# Altium footprint library leonLib.PcbLib: 249 footprints (part 11 of 16)
Each footprint in its own frame and in the unit in brackets; x right, y up, seen from the top. Pads: shape width x height; smd on the part's side, far side on the other; paste and mask are expansions set on the pad; w line width, h text height; cw(c..) or ccw(c..) is an arc to the next point about the centre after c.
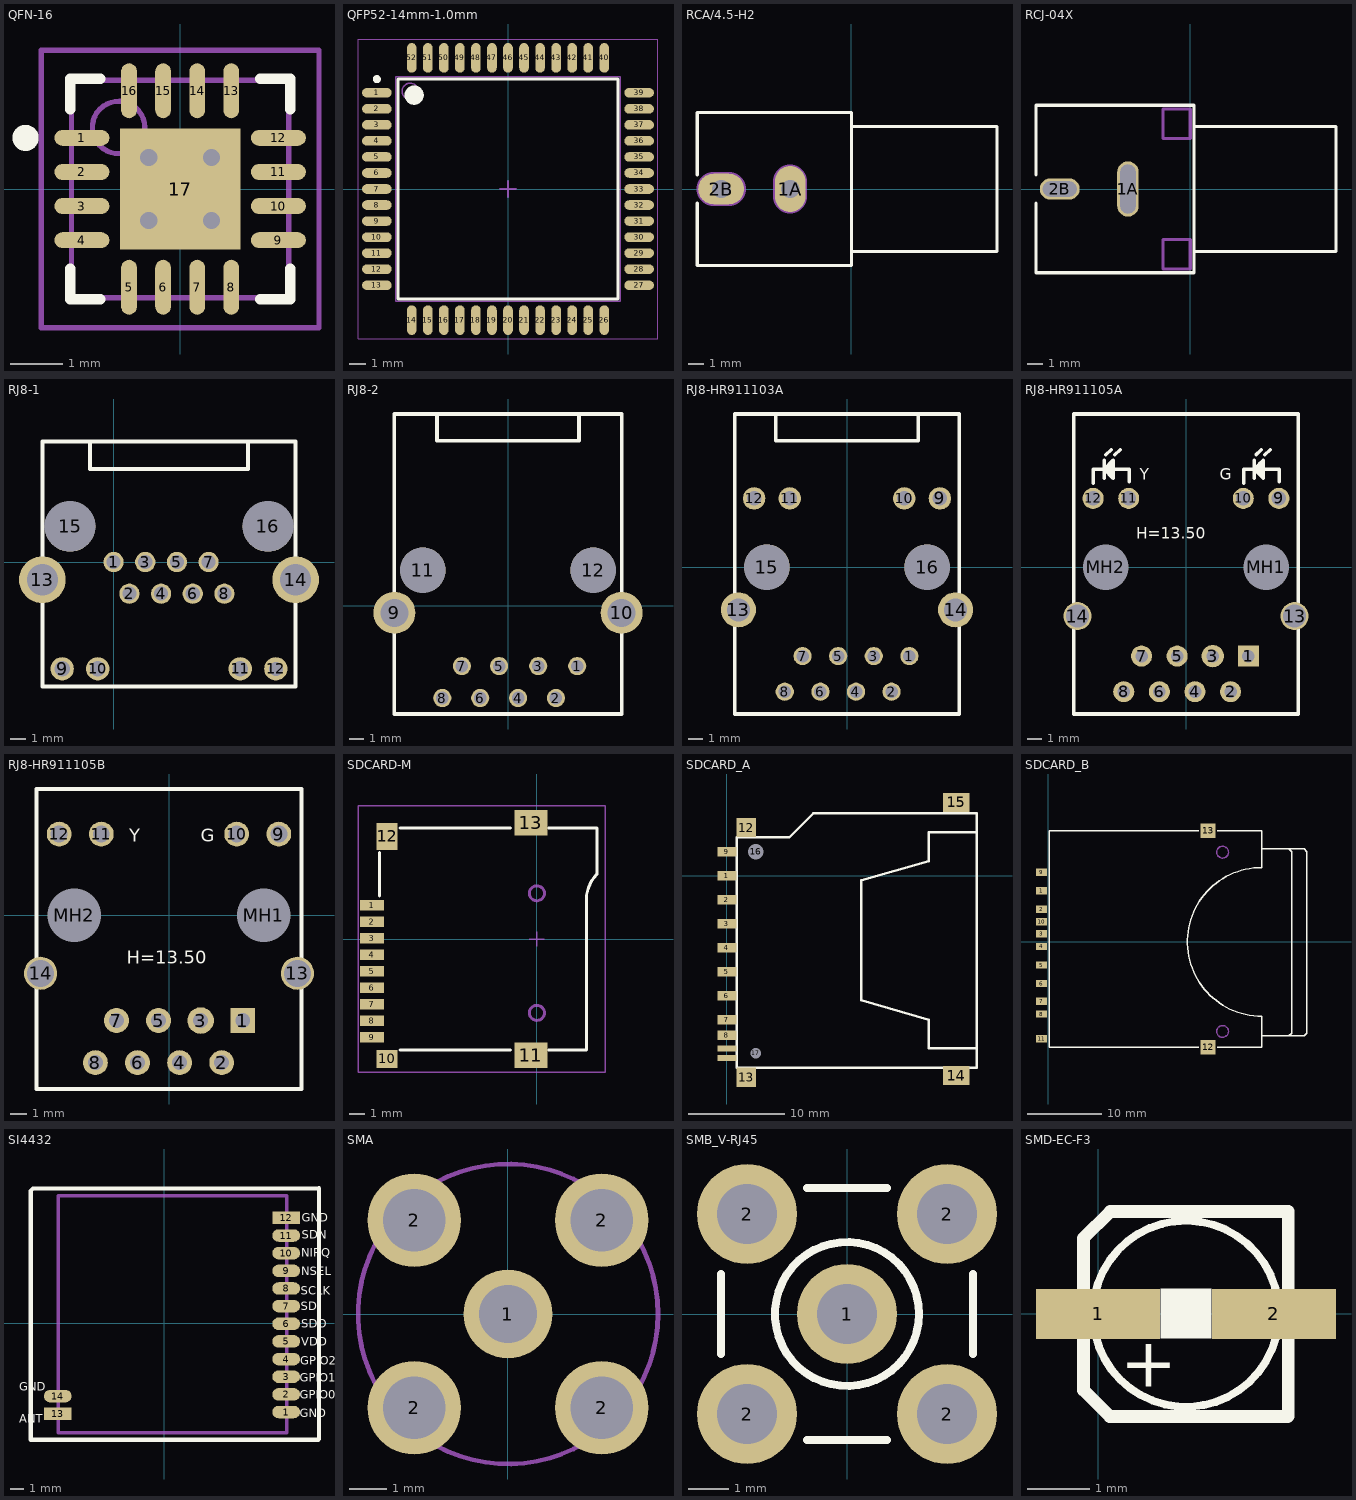
[diagram p10: the footprints below, top view; thin cyan lines are the x and y axes]

## QFN-16 [mm] "QFN"
height 0.8
pads (17):
  oval 1.05x0.3 smd: 1(-1.875,0.975) 2(-1.875,0.325) 3(-1.875,-0.325) 4(-1.875,-0.975) 9(1.875,-0.975) 10(1.875,-0.325) 11(1.875,0.325) 12(1.875,0.975)
  oval 0.3x1.05 smd: 5(-0.975,-1.875) 6(-0.325,-1.875) 7(0.325,-1.875) 8(0.975,-1.875) 13(0.975,1.875) 14(0.325,1.875) 15(-0.325,1.875) 16(-0.975,1.875)
  rect 2.3x2.3 smd: 17(0,0)
via 0.6,-0.6 diameter 0.66 hole 0.33
via -0.6,-0.6 diameter 0.66 hole 0.33
via 0.6,0.6 diameter 0.66 hole 0.33
via -0.6,0.6 diameter 0.66 hole 0.33
Top Overlay:
  circle w0.25: c-2.95,0.975 r0.125
  lines w0.2: -2.1,-1.525 -2.1,-2.1 -1.525,-2.1 ; -2.1,1.525 -2.1,2.1 -1.525,2.1 ; 1.525,-2.1 2.1,-2.1 2.1,-1.525 ; 1.525,2.1 2.1,2.1 2.1,1.525
Mechanical 13:
  circle w0.1: c-1.175,1.175 r0.5
  lines w0.1: -2.075,-2.075 2.075,-2.075 2.075,2.075 -2.075,2.075 -2.075,-2.075
Mechanical 15:
  lines w0.1: -0.5,0 0.5,0 ; 0,-0.5 0,0.5 ; -2.65,-2.65 2.65,-2.65 2.65,2.65 -2.65,2.65 -2.65,-2.65
3D body: height 0.8, standoff 0, extent -2.075,-2.075 2.075,2.075

## QFP52-14mm-1.0mm [mm] "QFP, 52-Leads, Body 14.00x14.00mm, Pitch 1.00mm, IPC Medium Density"
height 3.4
pads (52):
  oval 1.85x0.6 smd: 1(-8.175,6) 2(-8.175,5) 3(-8.175,4) 4(-8.175,3) 5(-8.175,2) 6(-8.175,1) 7(-8.175,0) 8(-8.175,-1) 9(-8.175,-2) 10(-8.175,-3) 11(-8.175,-4) 12(-8.175,-5) 13(-8.175,-6) 27(8.175,-6) 28(8.175,-5) 29(8.175,-4) 30(8.175,-3) 31(8.175,-2) 32(8.175,-1) 33(8.175,0) 34(8.175,1) 35(8.175,2) 36(8.175,3) 37(8.175,4) 38(8.175,5) 39(8.175,6)
  oval 0.6x1.85 smd: 14(-6,-8.175) 15(-5,-8.175) 16(-4,-8.175) 17(-3,-8.175) 18(-2,-8.175) 19(-1,-8.175) 20(0,-8.175) 21(1,-8.175) 22(2,-8.175) 23(3,-8.175) 24(4,-8.175) 25(5,-8.175) 26(6,-8.175) 40(6,8.175) 41(5,8.175) 42(4,8.175) 43(3,8.175) 44(2,8.175) 45(1,8.175) 46(0,8.175) 47(-1,8.175) 48(-2,8.175) 49(-3,8.175) 50(-4,8.175) 51(-5,8.175) 52(-6,8.175)
Top Overlay:
  circle w0.25: c-8.175,6.85 r0.125
  circle w0.6: c-5.85,5.85 r0.3
  lines w0.2: -6.85,-6.85 -6.85,6.85 6.85,6.85 6.85,-6.85 -6.85,-6.85
Mechanical 13:
  circle w0.1: c-6.1,6.1 r0.5
  lines w0.1: -7,-7 -7,7 7,7 7,-7 -7,-7
Mechanical 15:
  lines w0.05: -9.35,-9.35 -9.35,9.35 9.35,9.35 9.35,-9.35 -9.35,-9.35
  lines w0.1: -0.5,0 0.5,0 ; 0,-0.5 0,0.5
3D body: height 3.4, standoff 0.1, extent -7,-7 7,7

## RCA/4.5-H2 [mm] "Two Conductor Jack (RCA)"
height 13
pads (2):
  oval 2x3 hole 1.2: 1A(-4,0)
  oval 3x2 hole 1.2: 2B(-8.496,0)
Top Overlay:
  lines w0.2: -10.075,5 -0.018,5 ; -10.057,-0.92 -10.057,-5 0,-5 0,5 ; -10.057,0.92 -10.057,5 ; 0,-4.065 9.5,-4.065 9.5,4.065 0,4.065
Mechanical 1:
  lines w1.2: -8.996,0 -7.996,0 ; -4,-0.5 -4,0.5
Mechanical 2:
  lines w2.216: -8.996,0 -7.996,0 ; -4,-0.5 -4,0.5

## RCJ-04X [mm] "Two Conductor Jack (RCA)"
height 13
pads (2):
  oval 1.4x3.6 hole 1 slot 3.2 at 90 deg: 1A(-4.064,0)
  oval 2.6x1.4 hole 1 slot 2.2 at 0 deg: 2B(-8.509,0)
Top Overlay:
  lines w0.2: -10.057,-0.92 -10.057,-5.461 0.254,-5.461 0.254,5.461 -10.057,5.461 -10.057,0.92 ; 0.254,-4.065 9.5,-4.065 9.5,4.065 0.254,4.065
Mechanical 1:
  lines w0.2: -1.778,-5.207 0,-5.207 0,-3.302 -1.778,-3.302 -1.778,-5.207 ; -1.778,3.302 -1.778,5.207 0,5.207 0,3.302 -1.778,3.302

## RJ8-1 [mm] "网络"
pads (16):
  round 1.3 hole 0.9: 1(0,0) 2(1.016,-2.032) 3(2.032,0) 4(3.048,-2.032) 5(4.064,0) 6(5.08,-2.032) 7(6.096,0) 8(7.112,-2.032)
  round 1.5 hole 1: 9(-3.302,-6.858) 10(-1.016,-6.858) 11(8.128,-6.858)
  round 1.5 hole 0.9: 12(10.414,-6.858)
  round 3 hole 2: 13(-4.572,-1.143) 14(11.684,-1.143)
  round 3.251 hole 3.251: 15(-2.794,2.286) 16(9.906,2.286)
Top Overlay:
  lines w0.254: -1.524,7.747 -1.524,5.969 8.636,5.969 8.636,7.747 ; -4.572,-8.001 11.684,-8.001 11.684,-1.143 11.684,7.747 -4.572,7.747 -4.572,-1.143 -4.572,-8.001

## RJ8-2 [mm] "网络"
height 10
pads (12):
  round 1.3 hole 0.9: 1(4.953,-4.318) 2(3.429,-6.604) 3(2.159,-4.318) 4(0.72,-6.604) 5(-0.635,-4.318) 6(-1.99,-6.604) 7(-3.302,-4.318) 8(-4.699,-6.604)
  round 3 hole 2: 9(-8.128,-0.508) 10(8.128,-0.508)
  round 3.251 hole 3.251: 11(-6.096,2.54) 12(6.096,2.54)
Top Overlay:
  lines w0.254: -5.08,13.589 -5.08,11.811 5.08,11.811 5.08,13.589 ; -8.128,-7.747 8.128,-7.747 8.128,-0.889 8.128,13.716 -8.128,13.716 -8.128,-0.889 -8.128,-7.747

## RJ8-HR911103A [mm] "网络"
height 10
pads (16):
  round 1.3 hole 0.9: 1(4.45,-6.35) 2(3.18,-8.89) 3(1.91,-6.35) 4(0.64,-8.89) 5(-0.63,-6.35) 6(-1.9,-8.89) 7(-3.17,-6.35) 8(-4.44,-8.89)
  round 1.6 hole 1.02: 9(6.625,4.9) 10(4.085,4.9) 11(-4.085,4.9) 12(-6.625,4.9)
  round 2.5 hole 1.63: 13(-7.745,-3.05) 14(7.745,-3.05)
  round 3.251 hole 3.251: 15(-5.715,0) 16(5.715,0)
Top Overlay:
  lines w0.254: -5.08,10.795 -5.08,9.017 5.08,9.017 5.08,10.795 ; -8,-10.48 -8,10.92 8,10.92 8,-10.48 -8,-10.48

## RJ8-HR911105A [mm]
height 14.8
pads (16):
  rect 1.5x1.5 hole 0.9: 1(4.45,-6.35)
  round 1.5 hole 0.9: 2(3.18,-8.89) 4(0.64,-8.89) 5(-0.63,-6.35) 6(-1.9,-8.89) 7(-3.17,-6.35) 8(-4.44,-8.89)
  round 1.6 hole 0.9: 3(1.91,-6.35)
  round 1.5 hole 1.02: 9(6.625,4.9) 10(4.085,4.9) 11(-4.085,4.9) 12(-6.625,4.9)
  round 2 hole 1.63: 13(7.745,-3.5) 14(-7.745,-3.5)
  round 2.95 hole 3.25 unplated: MH1(5.715,0) MH2(-5.715,0)
Top Overlay:
  lines w0.25: -6.604,5.969 -6.604,6.985 -4.064,6.985 -4.064,6.096 ; -5.842,6.35 -5.842,7.62 ; -5.715,8.001 -5.334,8.382 ; -5.434,6.592 -5.434,7.393 ; -5.08,8.001 -4.699,8.382 ; 4.106,5.969 4.106,6.985 6.646,6.985 6.646,6.096 ; 4.868,6.35 4.868,7.62 ; 4.995,8.001 5.376,8.382 ; 5.276,6.592 5.276,7.393 ; 5.63,8.001 6.011,8.382 ; -8,-10.48 -8,10.92 8,10.92 8,-10.48 -8,-10.48 ; -5.842,6.985 -5.207,7.62 -5.207,6.35 -5.842,6.985 ; 4.868,6.985 5.503,7.62 5.503,6.35 4.868,6.985
  text "G" at 2.413,6.223 h0.8
  text "Y" at -3.302,6.223 h0.8
  text "H=13.50" at -3.556,2.032 h0.8

## RJ8-HR911105B [mm]
height 14.8
pads (16):
  rect 1.5x1.5 hole 0.9: 1(4.45,-6.35)
  round 1.5 hole 0.9: 2(3.18,-8.89) 4(0.64,-8.89) 5(-0.63,-6.35) 6(-1.9,-8.89) 7(-3.17,-6.35) 8(-4.44,-8.89)
  round 1.6 hole 0.9: 3(1.91,-6.35)
  round 1.5 hole 1.02: 9(6.625,4.9) 10(4.085,4.9) 11(-4.085,4.9) 12(-6.625,4.9)
  round 2 hole 1.63: 13(7.745,-3.5) 14(-7.745,-3.5)
  round 2.95 hole 3.25 unplated: MH1(5.715,0) MH2(-5.715,0)
Top Overlay:
  lines w0.25: -8,-10.48 -8,7.62 8,7.62 8,-10.48 -8,-10.48
  text "G" at 1.905,4.445 h0.8
  text "Y" at -2.413,4.445 h0.8
  text "H=13.50" at -2.54,-2.921 h0.8

## SDCARD-M [mm] "TF卡"
height 1.5
pads (13):
  rect 1.6x0.7 smd: 1(-11.008,2.25) 2(-11.008,1.15) 3(-11.008,0.05) 4(-11.008,-1.05) 5(-11.008,-2.15) 6(-11.008,-3.25) 7(-11.008,-4.35) 8(-11.008,-5.45) 9(-11.008,-6.55)
  rect 1.4x1.2 smd: 10(-10,-8.004)
  rect 2.2x1.7 smd: 11(-0.4,-7.75) 13(-0.4,7.75)
  rect 1.4x1.8 smd: 12(-10,6.85)
Top Overlay:
  lines w0.2: -10.5,2.88 -10.5,5.756 ; -9.144,-7.4 -1.778,-7.4 ; -9.144,7.4 -1.778,7.4 ; 0.762,-7.4 3.3,-7.4 3.3,1.016 ; 0.762,7.4 4,7.4 4,4.318 ccw(c5.69,2.628) 3.3,2.628 3.3,0.762
Mechanical 1:
  circle w0.2: c0,3.05 r0.5
  circle w0.2: c0,-4.93 r0.5
Mechanical 15:
  lines w0.1: -0.5,0 0.5,0 ; 0,-0.5 0,0.5 ; -11.938,-8.89 -11.938,8.89 4.572,8.89 4.572,-8.89 -11.938,-8.89

## SDCARD_A [mm] "SD卡不自弹"
pads (17):
  rect 2x1 smd: 1(0,0) 2(0,-2.5) 3(0,-5) 4(0,-7.5) 5(0,-10) 6(0,-12.5) 7(0,-15) 8(0,-16.625) 9(0,2.5)
  rect 2x0.6 smd: 10(0,-19) 11(0,-18)
  rect 2x2 smd: 12(2,5) 13(2,-21)
  rect 2.8x2 smd: 14(23.876,-20.828) 15(23.876,7.62)
  round 1.5 hole 1.6: 16(3,2.5)
  round 1 hole 1.1: 17(3,-18.5)
Top Overlay:
  lines w0.254: 26,-18 21,-18 21,-15 14,-13 14,-0.5 21,1.5 21,4.5 26,4.5 ; 1,-20 26,-20 26,6.5 9,6.5 6.5,4 1,4 1,-20

## SDCARD_B [mm] "SD卡自弹"
pads (13):
  rect 1.5x1 smd: 1(-0.889,6.88) 2(-0.889,4.38) 3(-0.889,1.08) 4(-0.889,-0.63) 5(-0.889,-3.13) 6(-0.889,-5.63) 7(-0.889,-8.05) 8(-0.889,-9.75) 9(-0.889,9.38) 10(-0.889,2.73) 11(-0.889,-13.1)
  rect 2x2 smd: 12(21.59,-14.224) 13(21.59,14.986)
Top Overlay:
  lines w0.2: 20.32,-14.224 0.127,-14.224 0.127,0 0.127,14.986 20.32,14.986 ; 22.86,-14.224 28.829,-14.224 28.829,-10.033 cw(c28.829,0) 28.829,10.033 28.829,14.986 22.86,14.986 ; 28.829,-12.7 32.893,-12.7 34.544,-12.7 34.925,-12.319 34.925,12.192 34.544,12.573 32.893,12.573 28.829,12.573 ; 32.512,-12.7 32.893,-12.319 32.893,12.192 32.512,12.573
Mechanical 1:
  circle w0.2: c23.55,12.1 r0.8
  circle w0.2: c23.55,-12.1 r0.8

## SI4432 [mm] "SI4432无线模块"
pads (14):
  oval 2x0.9 smd: 1(8.789,-6.382) 2(8.789,-5.112) 3(8.789,-3.84) 4(8.789,-2.57) 5(8.789,-1.3) 6(8.789,-0.03) 7(8.789,1.24) 8(8.789,2.51) 9(8.789,3.78) 10(8.789,5.05) 11(8.789,6.32) 14(-7.65,-5.234)
  rect 2x0.9 smd: 12(8.789,7.59) 13(-7.65,-6.504)
Top Overlay:
  lines w0.305: -9.601,-8.382 -9.601,9.525 -9.423,9.703 -9.246,9.703 11.125,9.703 ; -9.55,-8.382 11.1,-8.382 11.151,-8.331 11.151,9.728
  text "GND" at 9.779,-6.756 h0.6
  text "ANT" at -10.439,-7.137 h0.6
  text "GND" at -10.414,-4.851 h0.6
  text "GPIO0" at 9.779,-5.41 h0.6
  text "GPIO1" at 9.779,-4.191 h0.6
  text "GPIO2" at 9.804,-2.972 h0.6
  text "VDD" at 9.881,-1.626 h0.6
  text "SDO" at 9.881,-0.33 h0.6
  text "SDI" at 9.855,0.94 h0.6
  text "SCLK" at 9.855,2.057 h0.6
  text "NSEL" at 9.881,3.454 h0.6
  text "NIRQ" at 9.881,4.801 h0.6
  text "SDN" at 9.906,6.096 h0.6
  text "GND" at 9.906,7.315 h0.6
Mechanical 1:
  lines w0.254: -7.62,-7.881 8.829,-7.881 8.829,9.169 -7.62,9.169 -7.62,-7.881
3D body: height 0.05, standoff 0, extent -7.747,-8.008 8.956,9.296

## SMA [mil] "SMA"
pads (5):
  round 95 hole 62: 1(0,0)
  round 100 hole 67: 2(-100,-100) 2(-100,100) 2(100,-100) 2(100,100)
Mechanical 5:
  circle w5: c0,0 r160
3D body: height 375, standoff -155, extent -155.8,-155.99 155.8,156.01

## SMB_V-RJ45 [mm] "Connector; SMB Straight"
pads (5):
  round 2.5 hole 1.5: 1(0,0) 2(-2.5,-2.5) 2(-2.5,2.5) 2(2.5,-2.5) 2(2.5,2.5)
Top Overlay:
  circle w0.2: c0,0 r1.8
  lines w0.2: -3.15,-1 -3.15,1 ; -1,-3.15 1,-3.15 ; -1,3.15 1,3.15 ; 3.15,-1 3.15,1
Mechanical 1:
  circle w0.025: c0,0 r0.2
  circle w0.025: c0,0 r1.05
  circle w0.025: c0,0 r1.8

## SMD-EC-F3 [mm]
pads (2):
  rect 2x0.8 smd: 1(0,0) 2(2.835,0)
Top Overlay:
  rectangle: 1.003,-0.399 1.832,0.407
  lines w0.127: 2.777,0.636 ccw(c1.417,0.003) 2.777,0.634
  lines w0.203: 0.19,1.646 -0.234,1.222 -0.234,-1.229 0.19,-1.653 3.059,-1.653 ; 0.195,1.651 3.066,1.651 3.066,-1.647
  text "+" at 0.361,-1.174 h0.8